# Altium footprint library LE5010_QFN32.PcbLib: 1 footprints
Each footprint in its own frame and in the unit in brackets; x right, y up, seen from the top. Pads: shape width x height; smd on the part's side, far side on the other; paste and mask are expansions set on the pad; w line width, h text height; cw(c..) or ccw(c..) is an arc to the next point about the centre after c.
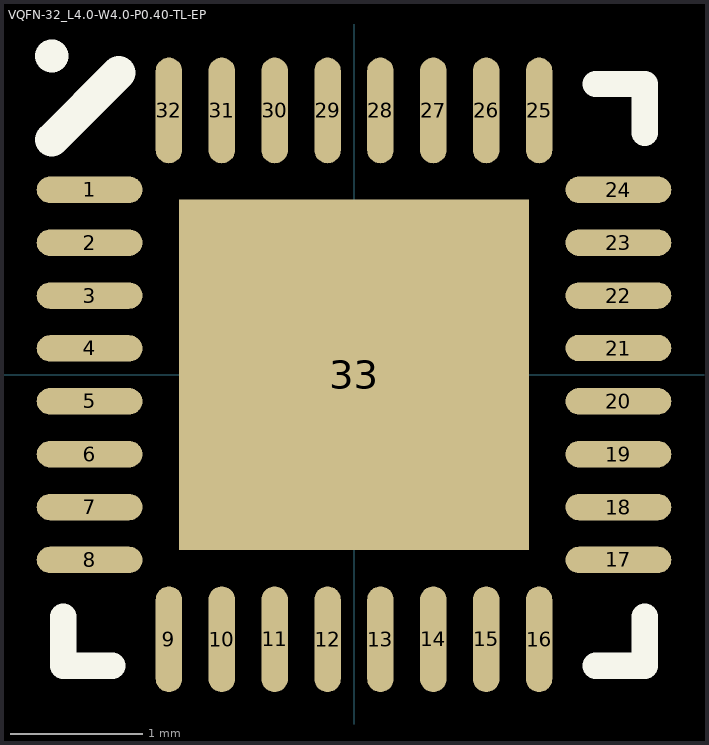
[diagram p0: the footprint, top view; thin cyan lines are the x and y axes]

## VQFN-32_L4.0-W4.0-P0.40-TL-EP [mm]
pads (33):
  oval 0.8x0.2 smd: 1(-2,1.4) 2(-2,1) 3(-2,0.6) 4(-2,0.2) 5(-2,-0.2) 6(-2,-0.6) 7(-2,-1) 8(-2,-1.4) 17(2,-1.4) 18(2,-1) 19(2,-0.6) 20(2,-0.2) 21(2,0.203) 22(2,0.6) 23(2,1) 24(2,1.4)
  oval 0.2x0.8 smd: 9(-1.4,-2) 10(-1,-2) 11(-0.6,-2) 12(-0.2,-2) 13(0.2,-2) 14(0.6,-2) 15(1,-2) 16(1.4,-2) 25(1.4,2) 26(1,2) 27(0.6,2) 28(0.2,2) 29(-0.2,2) 30(-0.6,2) 31(-1,2) 32(-1.4,2)
  rect 2.65x2.65 smd: 33(0,0)
Top Overlay:
  circle w0.25: c-2.286,2.413 r0
  lines w0.2: -2.2,-1.83 -2.2,-2.2 -1.83,-2.2 ; 1.83,-2.2 2.2,-2.2 2.2,-1.83 ; 1.83,2.2 2.2,2.2 2.2,1.83
  lines w0.254: -2.286,1.778 -1.778,2.286